# Altium footprint library DCT0008A_M.PcbLib: 1 footprints
Each footprint in its own frame and in the unit in brackets; x right, y up, seen from the top. Pads: shape width x height; smd on the part's side, far side on the other; paste and mask are expansions set on the pad; w line width, h text height; cw(c..) or ccw(c..) is an arc to the next point about the centre after c.
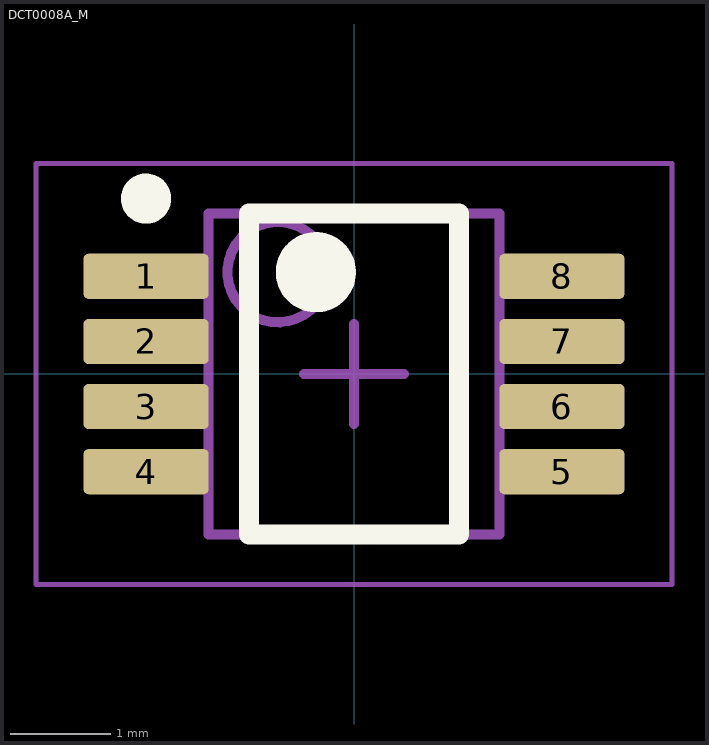
[diagram p0: the footprint, top view; thin cyan lines are the x and y axes]

## DCT0008A_M [mm] "SOP, 8-Leads, Body 2.9x3.2mm, Pitch 0.65mm, IPC Low Density"
height 1.3
pads (8):
  rrect22% 1.25x0.45 smd: 1(-2.075,0.975) 2(-2.075,0.325) 3(-2.075,-0.325) 4(-2.075,-0.975) 5(2.075,-0.975) 6(2.075,-0.325) 7(2.075,0.325) 8(2.075,0.975)
Top Overlay:
  circle w0.4: c-0.381,1.016 r0.2
  circle w0.25: c-2.075,1.75 r0.125
  lines w0.2: -1.05,-1.6 1.05,-1.6 1.05,1.6 -1.05,1.6 -1.05,-1.6
Mechanical 1:
  text ".Designator" at -1.143,-0.254 h0.6
Mechanical 13:
  circle w0.1: c-0.762,1.016 r0.5
  lines w0.1: -1.45,-1.6 1.45,-1.6 1.45,1.6 -1.45,1.6 -1.45,-1.6
Mechanical 15:
  lines w0.05: -3.175,-2.1 3.175,-2.1 3.175,2.1 -3.175,2.1 -3.175,-2.1
  lines w0.1: -0.5,0 0.5,0 ; 0,-0.5 0,0.5
3D body: height 1.3, standoff 0, extent -2.011,-1.475 2.011,1.475